# Altium footprint library Connector WF Series Pad.PcbLib: 38 footprints (part 3 of 3)
Each footprint in its own frame and in the unit in brackets; x right, y up, seen from the top. Pads: shape width x height; smd on the part's side, far side on the other; paste and mask are expansions set on the pad; w line width, h text height; cw(c..) or ccw(c..) is an arc to the next point about the centre after c.
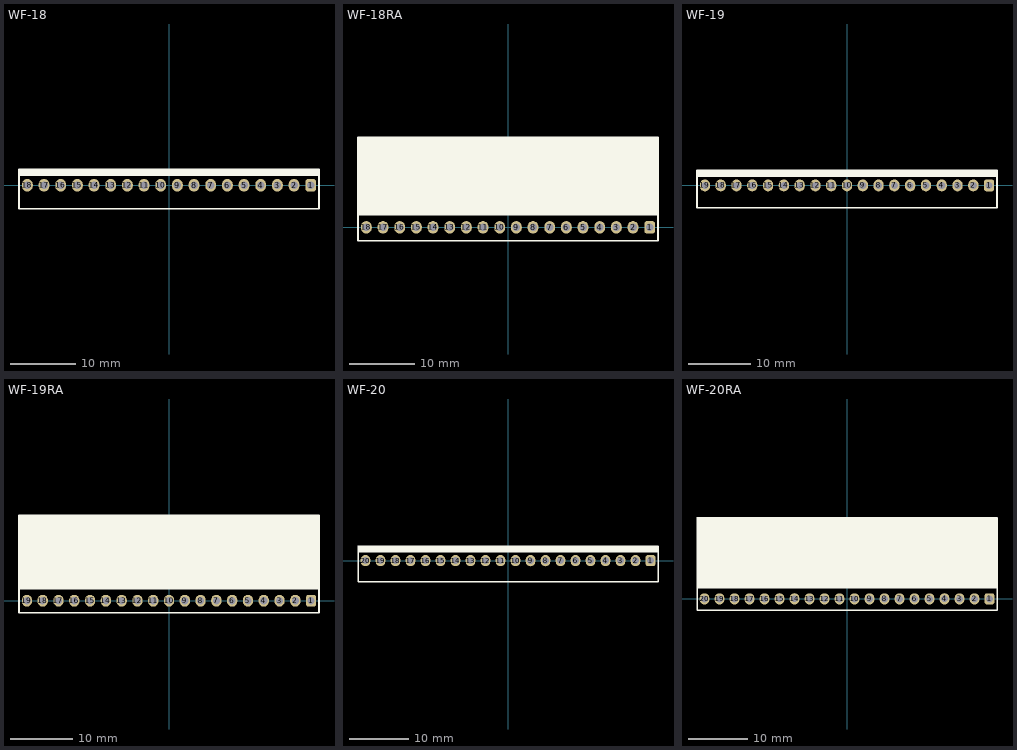
[diagram p2: the footprints below, top view; thin cyan lines are the x and y axes]

## WF-18 [mil] "PCB Vertical Connector 18-Pin"
pads (18):
  rrect50% 65x75 hole 45: 1(850,0)
  oval 65x75 hole 45: 2(750,0) 3(650,0) 4(550,0) 5(450,0) 6(350,0) 7(250,0) 8(150,0) 9(50,0) 10(-50,0) 11(-150,0) 12(-250,0) 13(-350,0) 14(-450,0) 15(-550,0) 16(-650,0) 17(-750,0) 18(-850,0)
Top Overlay:
  rectangle: -900,60 900,95
  lines w10: -900,60 900,60 ; -900,-140 900,-140 900,95 -900,95 -900,-140
3D body "DS1070-18 (WF-18 CONNFLY).step": height 449.82, standoff -128.92, extent -900,-140 900,92.28

## WF-18RA [mil] "PCB Rigth Angle Connector 18-Pin"
pads (18):
  rrect50% 65x75 hole 45: 1(850,0)
  oval 65x75 hole 45: 2(750,0) 3(650,0) 4(550,0) 5(450,0) 6(350,0) 7(250,0) 8(150,0) 9(50,0) 10(-50,0) 11(-150,0) 12(-250,0) 13(-350,0) 14(-450,0) 15(-550,0) 16(-650,0) 17(-750,0) 18(-850,0)
Top Overlay:
  rectangle: -900,75 900,540
  lines w10: -900,75 900,75 ; -900,-80 900,-80 900,540 -900,540 -900,-80
3D body "DS1070-18MR (WF-18RA CONNFLY).step": height 233.28, standoff -132.86, extent -900,-14.8 900,540.31

## WF-19 [mil] "PCB Vertical Connector 19-Pin"
pads (19):
  rrect50% 65x75 hole 45: 1(900,0)
  oval 65x75 hole 45: 2(800,0) 3(700,0) 4(600,0) 5(500,0) 6(400,0) 7(300,0) 8(200,0) 9(100,0) 10(0,0) 11(-100,0) 12(-200,0) 13(-300,0) 14(-400,0) 15(-500,0) 16(-600,0) 17(-700,0) 18(-800,0) 19(-900,0)
Top Overlay:
  rectangle: -950,60 950,95
  lines w10: -950,60 950,60 ; -950,-140 -950,95 950,95 950,-140 -950,-140
3D body "DS1070-19 (WF-19 CONNFLY).step": height 449.82, standoff -128.92, extent -950,-140 950,92.28

## WF-19RA [mil] "PCB Rigth Angle Connector 19-Pin"
pads (19):
  rrect50% 65x75 hole 45: 1(900,0)
  oval 65x75 hole 45: 2(800,0) 3(700,0) 4(600,0) 5(500,0) 6(400,0) 7(300,0) 8(200,0) 9(100,0) 10(0,0) 11(-100,0) 12(-200,0) 13(-300,0) 14(-400,0) 15(-500,0) 16(-600,0) 17(-700,0) 18(-800,0) 19(-900,0)
Top Overlay:
  rectangle: -950,75 950,540
  lines w10: -950,75 950,75 ; -950,-75 -950,540 950,540 950,-75 -950,-75
3D body "DS1070-19MR (WF-19RA CONNFLY).step": height 233.28, standoff -132.86, extent -950,-14.8 950,540.31

## WF-20 [mil] "PCB Vertical Connector 20-Pin"
pads (20):
  rrect50% 65x75 hole 45: 1(950,0)
  oval 65x75 hole 45: 2(850,0) 3(750,0) 4(650,0) 5(550,0) 6(450,0) 7(350,0) 8(250,0) 9(150,0) 10(50,0) 11(-50,0) 12(-150,0) 13(-250,0) 14(-350,0) 15(-450,0) 16(-550,0) 17(-650,0) 18(-750,0) 19(-850,0) 20(-950,0)
Top Overlay:
  rectangle: -1000,60 1000,95
  lines w10: -1000,60 1000,60 ; -1000,-140 -1000,95 1000,95 1000,-140 -1000,-140
3D body "DS1070-20 (WF-20 CONNFLY).step": height 449.82, standoff -128.92, extent -1000,-140 1000,92.28

## WF-20RA [mil] "PCB Rigth Angle Connector 20-Pin"
pads (20):
  rrect50% 65x75 hole 45: 1(950,0)
  oval 65x75 hole 45: 2(850,0) 3(750,0) 4(650,0) 5(550,0) 6(450,0) 7(350,0) 8(250,0) 9(150,0) 10(50,0) 11(-50,0) 12(-150,0) 13(-250,0) 14(-350,0) 15(-450,0) 16(-550,0) 17(-650,0) 18(-750,0) 19(-850,0) 20(-950,0)
Top Overlay:
  rectangle: -1000,75 1000,540
  lines w10: -1000,75 1000,75 ; -1000,-75 1000,-75 1000,540 -1000,540 -1000,-75
3D body "DS1070-20MR (WF-20RA CONNFLY).step": height 233.28, standoff -132.86, extent -1000,-14.8 1000,540.31